# Altium integrated library Linear Technology Power Management Hot Swap Controllers.IntLib: 992 symbols (part 57 of 93)
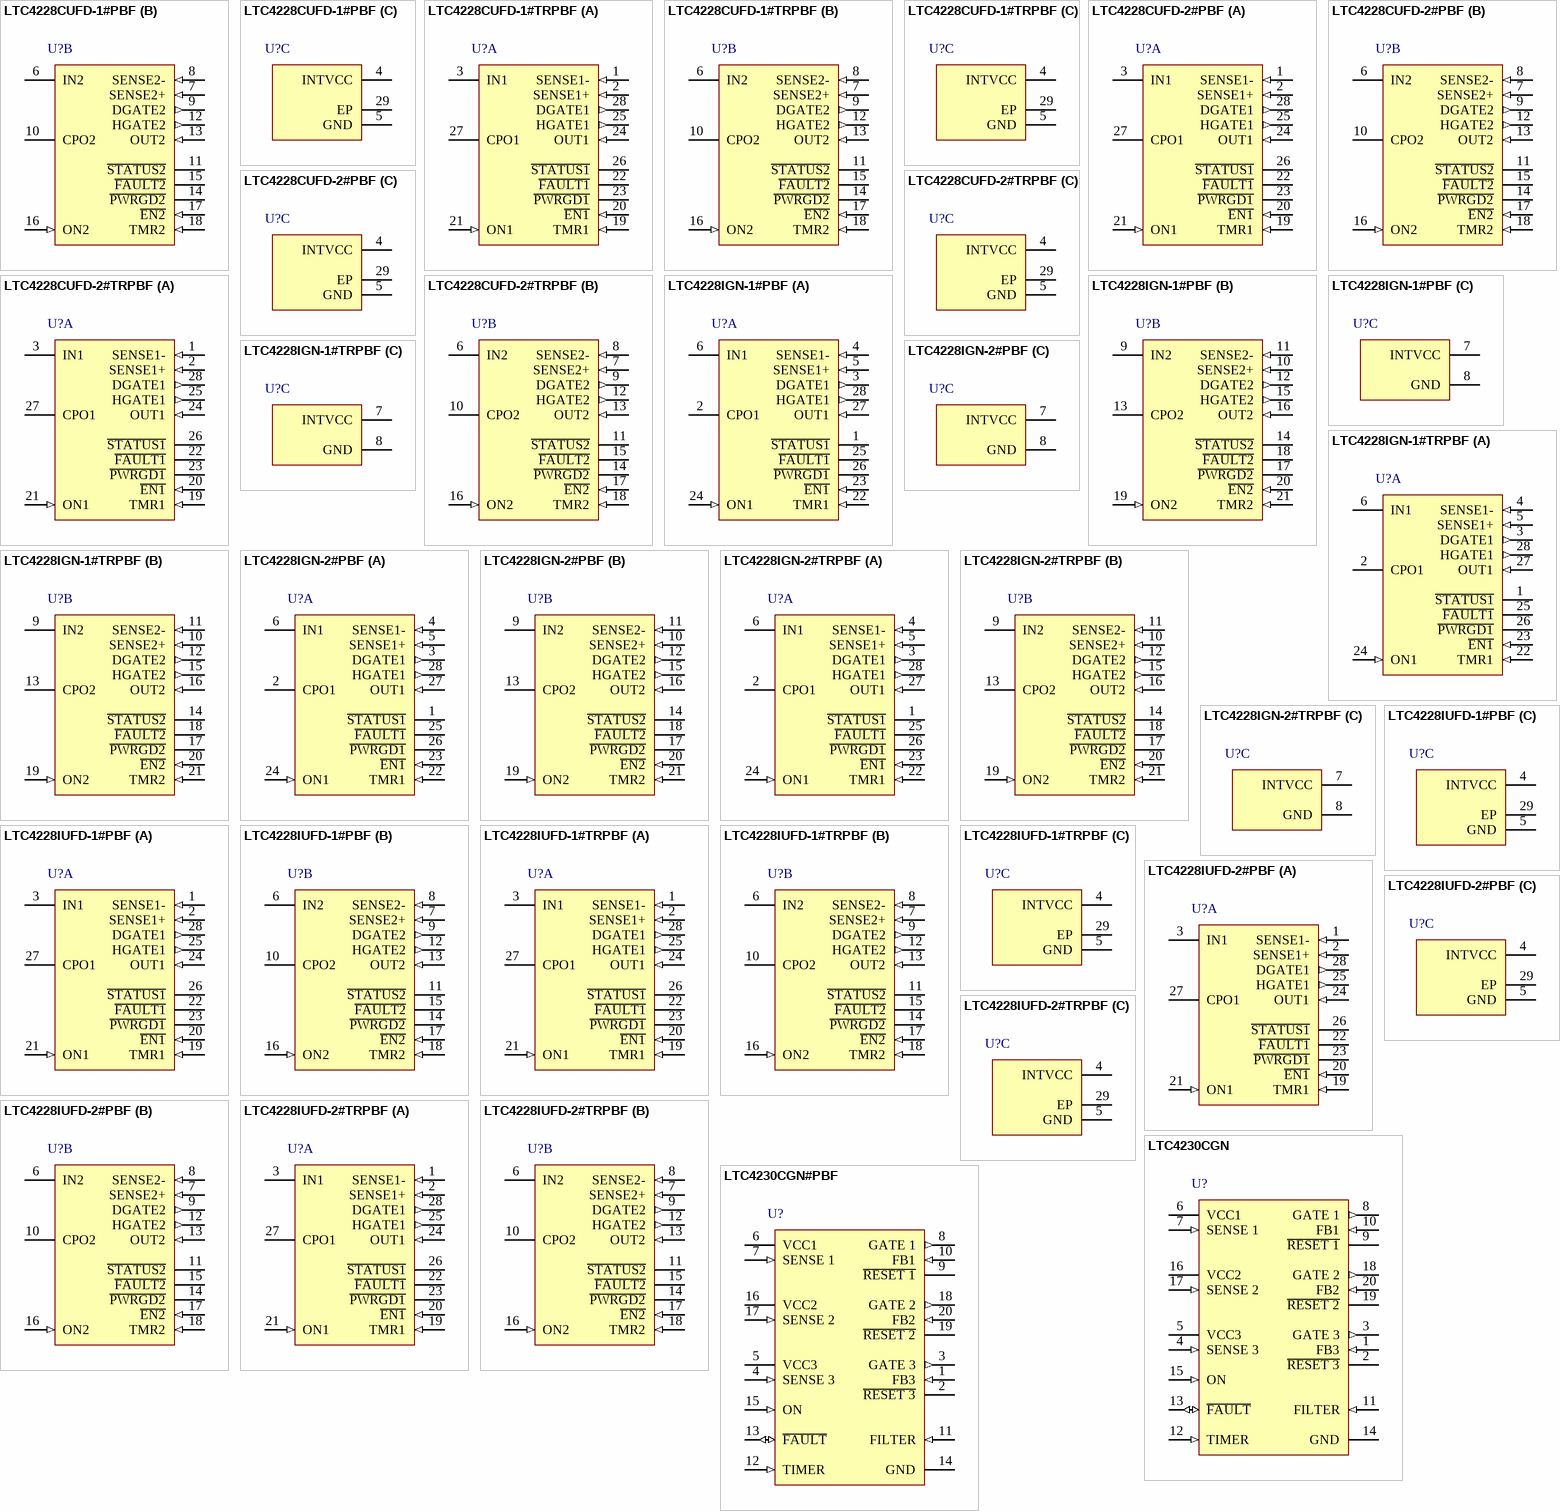
[diagram p93: symbols LTC4228CUFD-1#PBF to LTC4230CGN#PBF]

## LTC4228IUFD-2#PBF
designator U?
Dual Ideal Diode and Hot Swap Controller, 2.9 to 18 V Vin, 28-pin QFN (UFD-28), -40 to 85 degC, Pb-Free; Manufacturer: Linear Technology; PartNumber: LTC4228IUFD-2#PBF; Active Limiting: yes; Circuit Breaker Threshold: 50 mV; Extended Temp: C, I; Foldback: no; PackageVersion: Rev. B, 06/2010; PackageReference: UFD-28; PackageDescription: 28-Pin Plastic QFN, Body 5 x 4 mm, Pitch 0.5 mm; Supplier 1: Digi-Key; Supplier Part Number 1: LTC4228IUFD-2#PBF-ND; Supplier 2: Farnell; Supplier Part Number 2: 2215141; Supplier 3: Newark; Supplier Part Number 3: 44W6833; Fast Comparator: yes; Fault: yes; Power Good: yes; Reset: no; RoHS: TRUE; Vin Range: 2.9 to 18 V; Mounting Technology: Surface Mount; Code_JEDEC: MO-220; ComponentLink1Description: Manufacturer URL; ComponentLink1URL: http://www.linear.com/; ComponentLink2Description: Datasheet; ComponentLink2URL: http://cds.linear.com/docs/en/datasheet/422812f.pdf; ComponentLink3Description: Package Specification; ComponentLink3URL: http://cds.linear.com/docs/en/packaging/QFN_28_05-08-1712.pdf
footprint LT-UFD-28_N (QFN, 28-Leads, Body 5.1x4.1mm, Pitch 0.5mm, Thermal Pad 3.65x2.65mm, IPC Medium Density)
footprint LT-UFD-28_L (QFN, 28-Leads, Body 5.1x4.1mm, Pitch 0.5mm, Thermal Pad 3.65x2.65mm, IPC High Density)
footprint LT-UFD-28_M (QFN, 28-Leads, Body 5.1x4.1mm, Pitch 0.5mm, Thermal Pad 3.65x2.65mm, IPC Low Density)
part A pins: 1 SENSE1- (in) "Negative Current Sense Input. Connect this pin to the output of the current sense resistor. The current limit circuit controls HGATE to limit the voltage between SENSE+ and SENSE- to 65mV. A circuit breaker trips when the (See Datasheet)", 2 SENSE1+ (in) "Positive Current Sense Input. Connect this pin to the output of the external ideal diode MOSFET and input of the current sense resistor. The voltage sensed at this pin is used for monitoring the current limit. This pin has (See Datasheet)", 3 IN1 (power) "Positive Supply Input and Ideal Diode’s MOSFET Gate Drive Return. The 5V INTVCC supply is generated from IN1, IN2, OUT1 and OUT2 via an internal diode-OR. The voltage sensed at this pin is used to control DGATE for forwar(See Datasheet)", 19 TMR1 (in) "Timer Capacitor Terminal. Connect a capacitor between this pin and ground to set a 12ms/uF duration for current limit before the external Hot Swap MOSFET is turned off. The duration of the off time is 617ms/uF, resulting in (See Datasheet)", 20 ~{EN1} (in) "Enable Input. Ground this pin to enable Hot Swap control. If this pin is pulled high, the MOSFET is not allowed to turn on. A 10uA current source pulls this pin up to a diode below INTVCC. Upon E\N\ going low when ON is (See Datasheet)", 21 ON1 (in) "On Control Input. A rising edge above 1.235V turns on the external Hot Swap MOSFET and a falling edge below 1.155V turns it off. Connect this pin to an external resistive divider from IN or SENSE+ to monitor the supply (See Datasheet)", 22 ~{FAULT1} (oc) "Fault Status Output. Open-drain output that is normally pulled high by a 10uA current source to a diode below INTVCC. It may be pulled above INTVCC using an external pull-up. It pulls low when the circuit breaker is tripped (See Datasheet)", 23 ~{PWRGD1} (oc) "Power Status Output. Open-drain output that is normally pulled high by a 10uA current source to a diode below INTVCC. It may be pulled above INTVCC using an external pull-up. It pulls low when the MOSFET gate drive between (See Datasheet)", 24 OUT1 (in) "Output Voltage Sense and Hot Swap’s MOSFET Gate Drive Return. Connect this pin to the output side of the external MOSFET. The voltage sensed at this pin is used to control DGATE. The gate fast pull-down current return(See Datasheet)", 25 HGATE1 (out) "Hot Swap MOSFET Gate Drive Output. Connect this pin to the gate of the external N-channel MOSFET for Hot Swap control. An internal 10uA current source charges the MOSFET gate. An internal clamp limits the gate voltage to 12V (See Datasheet)", 26 ~{STATUS1} (oc) "Diode MOSFET Status Output. Open-drain output that is normally pulled high by a 10uA current source to a diode below INTVCC. It may be pulled above INTVCC using an external pull-up. It pulls low when the MOSFET gate drive (See Datasheet)", 27 CPO1 "Charge Pump Output. Connect a capacitor from CPO1 or CPO2 to the corresponding IN1 or IN2 pin. The value of this capacitor is approximately 10x the gate capacitance (CISS) of the external MOSFET for ideal diode control. The (See Datasheet)", 28 DGATE1 (out) "Ideal Diode MOSFET Gate Drive Output. Connect this pin to the gate of an external N-channel MOSFET for ideal diode control. An internal clamp limits the gate voltage to 12V above and a diode voltage below IN. During fast (See Datasheet)"
part B pins: 6 IN2 (power) "Positive Supply Input and Ideal Diode’s MOSFET Gate Drive Return. The 5V INTVCC supply is generated from IN1, IN2, OUT1 and OUT2 via an internal diode-OR. The voltage sensed at this pin is used to control DGATE for forwar(See Datasheet)", 7 SENSE2+ (in) "Positive Current Sense Input. Connect this pin to the output of the external ideal diode MOSFET and input of the current sense resistor. The voltage sensed at this pin is used for monitoring the current limit. This pin has (See Datasheet)", 8 SENSE2- (in) "Negative Current Sense Input. Connect this pin to the output of the current sense resistor. The current limit circuit controls HGATE to limit the voltage between SENSE+ and SENSE- to 65mV. A circuit breaker trips when the (See Datasheet)", 9 DGATE2 (out) "Ideal Diode MOSFET Gate Drive Output. Connect this pin to the gate of an external N-channel MOSFET for ideal diode control. An internal clamp limits the gate voltage to 12V above and a diode voltage below IN. During fast (See Datasheet)", 10 CPO2 "Charge Pump Output. Connect a capacitor from CPO1 or CPO2 to the corresponding IN1 or IN2 pin. The value of this capacitor is approximately 10x the gate capacitance (CISS) of the external MOSFET for ideal diode control. The (See Datasheet)", 11 ~{STATUS2} (oc) "Diode MOSFET Status Output. Open-drain output that is normally pulled high by a 10uA current source to a diode below INTVCC. It may be pulled above INTVCC using an external pull-up. It pulls low when the MOSFET gate drive (See Datasheet)", 12 HGATE2 (out) "Hot Swap MOSFET Gate Drive Output. Connect this pin to the gate of the external N-channel MOSFET for Hot Swap control. An internal 10uA current source charges the MOSFET gate. An internal clamp limits the gate voltage to 12V (See Datasheet)", 13 OUT2 (in) "Output Voltage Sense and Hot Swap’s MOSFET Gate Drive Return. Connect this pin to the output side of the external MOSFET. The voltage sensed at this pin is used to control DGATE. The gate fast pull-down current return(See Datasheet)", 14 ~{PWRGD2} (oc) "Power Status Output. Open-drain output that is normally pulled high by a 10uA current source to a diode below INTVCC. It may be pulled above INTVCC using an external pull-up. It pulls low when the MOSFET gate drive between (See Datasheet)", 15 ~{FAULT2} (oc) "Fault Status Output. Open-drain output that is normally pulled high by a 10uA current source to a diode below INTVCC. It may be pulled above INTVCC using an external pull-up. It pulls low when the circuit breaker is tripped (See Datasheet)", 16 ON2 (in) "On Control Input. A rising edge above 1.235V turns on the external Hot Swap MOSFET and a falling edge below 1.155V turns it off. Connect this pin to an external resistive divider from IN or SENSE+ to monitor the supply (See Datasheet)", 17 ~{EN2} (in) "Enable Input. Ground this pin to enable Hot Swap control. If this pin is pulled high, the MOSFET is not allowed to turn on. A 10uA current source pulls this pin up to a diode below INTVCC. Upon E\N\ going low when ON is (See Datasheet)", 18 TMR2 (in) "Timer Capacitor Terminal. Connect a capacitor between this pin and ground to set a 12ms/uF duration for current limit before the external Hot Swap MOSFET is turned off. The duration of the off time is 617ms/uF, resulting in (See Datasheet)"
part C pins: 4 INTVCC (power) "Internal 5V Supply Decoupling Output. This pin must have a 0.1uF or larger capacitor. An external load of less than 500uA can be connected at this pin.", 5 GND (power) "Device Ground", 29 EP (power) "The exposed pad may be left open or connected to device ground"

## LTC4228IUFD-2#TRPBF
designator U?
Dual Ideal Diode and Hot Swap Controller, 2.9 to 18 V Vin, 28-pin QFN (UFD-28), -40 to 85 degC, Pb-Free, Tape and Reel; Manufacturer: Linear Technology; PartNumber: LTC4228IUFD-2#TRPBF; Active Limiting: yes; Circuit Breaker Threshold: 50 mV; Extended Temp: C, I; Foldback: no; PackageVersion: Rev. B, 06/2010; PackageReference: UFD-28; PackageDescription: 28-Pin Plastic QFN, Body 5 x 4 mm, Pitch 0.5 mm; Supplier 1: Digi-Key; Supplier Part Number 1: LTC4228IUFD-2#TRPBF-ND; Supplier 2: Newark; Supplier Part Number 2: 44W6834; Fast Comparator: yes; Fault: yes; Packing: Tape and Reel; Power Good: yes; Reset: no; RoHS: TRUE; Vin Range: 2.9 to 18 V; Mounting Technology: Surface Mount; Code_JEDEC: MO-220; ComponentLink1Description: Manufacturer URL; ComponentLink1URL: http://www.linear.com/; ComponentLink2Description: Datasheet; ComponentLink2URL: http://cds.linear.com/docs/en/datasheet/422812f.pdf; ComponentLink3Description: Package Specification; ComponentLink3URL: http://cds.linear.com/docs/en/packaging/QFN_28_05-08-1712.pdf
footprint LT-UFD-28_N (QFN, 28-Leads, Body 5.1x4.1mm, Pitch 0.5mm, Thermal Pad 3.65x2.65mm, IPC Medium Density)
footprint LT-UFD-28_L (QFN, 28-Leads, Body 5.1x4.1mm, Pitch 0.5mm, Thermal Pad 3.65x2.65mm, IPC High Density)
footprint LT-UFD-28_M (QFN, 28-Leads, Body 5.1x4.1mm, Pitch 0.5mm, Thermal Pad 3.65x2.65mm, IPC Low Density)
part A pins: 1 SENSE1- (in) "Negative Current Sense Input. Connect this pin to the output of the current sense resistor. The current limit circuit controls HGATE to limit the voltage between SENSE+ and SENSE- to 65mV. A circuit breaker trips when the (See Datasheet)", 2 SENSE1+ (in) "Positive Current Sense Input. Connect this pin to the output of the external ideal diode MOSFET and input of the current sense resistor. The voltage sensed at this pin is used for monitoring the current limit. This pin has (See Datasheet)", 3 IN1 (power) "Positive Supply Input and Ideal Diode’s MOSFET Gate Drive Return. The 5V INTVCC supply is generated from IN1, IN2, OUT1 and OUT2 via an internal diode-OR. The voltage sensed at this pin is used to control DGATE for forwar(See Datasheet)", 19 TMR1 (in) "Timer Capacitor Terminal. Connect a capacitor between this pin and ground to set a 12ms/uF duration for current limit before the external Hot Swap MOSFET is turned off. The duration of the off time is 617ms/uF, resulting in (See Datasheet)", 20 ~{EN1} (in) "Enable Input. Ground this pin to enable Hot Swap control. If this pin is pulled high, the MOSFET is not allowed to turn on. A 10uA current source pulls this pin up to a diode below INTVCC. Upon E\N\ going low when ON is (See Datasheet)", 21 ON1 (in) "On Control Input. A rising edge above 1.235V turns on the external Hot Swap MOSFET and a falling edge below 1.155V turns it off. Connect this pin to an external resistive divider from IN or SENSE+ to monitor the supply (See Datasheet)", 22 ~{FAULT1} (oc) "Fault Status Output. Open-drain output that is normally pulled high by a 10uA current source to a diode below INTVCC. It may be pulled above INTVCC using an external pull-up. It pulls low when the circuit breaker is tripped (See Datasheet)", 23 ~{PWRGD1} (oc) "Power Status Output. Open-drain output that is normally pulled high by a 10uA current source to a diode below INTVCC. It may be pulled above INTVCC using an external pull-up. It pulls low when the MOSFET gate drive between (See Datasheet)", 24 OUT1 (in) "Output Voltage Sense and Hot Swap’s MOSFET Gate Drive Return. Connect this pin to the output side of the external MOSFET. The voltage sensed at this pin is used to control DGATE. The gate fast pull-down current return(See Datasheet)", 25 HGATE1 (out) "Hot Swap MOSFET Gate Drive Output. Connect this pin to the gate of the external N-channel MOSFET for Hot Swap control. An internal 10uA current source charges the MOSFET gate. An internal clamp limits the gate voltage to 12V (See Datasheet)", 26 ~{STATUS1} (oc) "Diode MOSFET Status Output. Open-drain output that is normally pulled high by a 10uA current source to a diode below INTVCC. It may be pulled above INTVCC using an external pull-up. It pulls low when the MOSFET gate drive (See Datasheet)", 27 CPO1 "Charge Pump Output. Connect a capacitor from CPO1 or CPO2 to the corresponding IN1 or IN2 pin. The value of this capacitor is approximately 10x the gate capacitance (CISS) of the external MOSFET for ideal diode control. The (See Datasheet)", 28 DGATE1 (out) "Ideal Diode MOSFET Gate Drive Output. Connect this pin to the gate of an external N-channel MOSFET for ideal diode control. An internal clamp limits the gate voltage to 12V above and a diode voltage below IN. During fast (See Datasheet)"
part B pins: 6 IN2 (power) "Positive Supply Input and Ideal Diode’s MOSFET Gate Drive Return. The 5V INTVCC supply is generated from IN1, IN2, OUT1 and OUT2 via an internal diode-OR. The voltage sensed at this pin is used to control DGATE for forwar(See Datasheet)", 7 SENSE2+ (in) "Positive Current Sense Input. Connect this pin to the output of the external ideal diode MOSFET and input of the current sense resistor. The voltage sensed at this pin is used for monitoring the current limit. This pin has (See Datasheet)", 8 SENSE2- (in) "Negative Current Sense Input. Connect this pin to the output of the current sense resistor. The current limit circuit controls HGATE to limit the voltage between SENSE+ and SENSE- to 65mV. A circuit breaker trips when the (See Datasheet)", 9 DGATE2 (out) "Ideal Diode MOSFET Gate Drive Output. Connect this pin to the gate of an external N-channel MOSFET for ideal diode control. An internal clamp limits the gate voltage to 12V above and a diode voltage below IN. During fast (See Datasheet)", 10 CPO2 "Charge Pump Output. Connect a capacitor from CPO1 or CPO2 to the corresponding IN1 or IN2 pin. The value of this capacitor is approximately 10x the gate capacitance (CISS) of the external MOSFET for ideal diode control. The (See Datasheet)", 11 ~{STATUS2} (oc) "Diode MOSFET Status Output. Open-drain output that is normally pulled high by a 10uA current source to a diode below INTVCC. It may be pulled above INTVCC using an external pull-up. It pulls low when the MOSFET gate drive (See Datasheet)", 12 HGATE2 (out) "Hot Swap MOSFET Gate Drive Output. Connect this pin to the gate of the external N-channel MOSFET for Hot Swap control. An internal 10uA current source charges the MOSFET gate. An internal clamp limits the gate voltage to 12V (See Datasheet)", 13 OUT2 (in) "Output Voltage Sense and Hot Swap’s MOSFET Gate Drive Return. Connect this pin to the output side of the external MOSFET. The voltage sensed at this pin is used to control DGATE. The gate fast pull-down current return(See Datasheet)", 14 ~{PWRGD2} (oc) "Power Status Output. Open-drain output that is normally pulled high by a 10uA current source to a diode below INTVCC. It may be pulled above INTVCC using an external pull-up. It pulls low when the MOSFET gate drive between (See Datasheet)", 15 ~{FAULT2} (oc) "Fault Status Output. Open-drain output that is normally pulled high by a 10uA current source to a diode below INTVCC. It may be pulled above INTVCC using an external pull-up. It pulls low when the circuit breaker is tripped (See Datasheet)", 16 ON2 (in) "On Control Input. A rising edge above 1.235V turns on the external Hot Swap MOSFET and a falling edge below 1.155V turns it off. Connect this pin to an external resistive divider from IN or SENSE+ to monitor the supply (See Datasheet)", 17 ~{EN2} (in) "Enable Input. Ground this pin to enable Hot Swap control. If this pin is pulled high, the MOSFET is not allowed to turn on. A 10uA current source pulls this pin up to a diode below INTVCC. Upon E\N\ going low when ON is (See Datasheet)", 18 TMR2 (in) "Timer Capacitor Terminal. Connect a capacitor between this pin and ground to set a 12ms/uF duration for current limit before the external Hot Swap MOSFET is turned off. The duration of the off time is 617ms/uF, resulting in (See Datasheet)"
part C pins: 4 INTVCC (power) "Internal 5V Supply Decoupling Output. This pin must have a 0.1uF or larger capacitor. An external load of less than 500uA can be connected at this pin.", 5 GND (power) "Device Ground", 29 EP (power) "The exposed pad may be left open or connected to device ground"

## LTC4230CGN
designator U?
Triple Hot Swap Controller with Multifunction Current Control, (1) 2.7 to 16.5 V, (2) 2.375 to 16.5 V, (3) 1.7 to 15.5 V Vin, 20-pin SOP (GN-20), 0 to 70 degC; Manufacturer: Linear Technology; PartNumber: LTC4230CGN; Active Limiting: no; Circuit Breaker Accuracy(%): 20; Circuit Breaker Threshold: 50 mV; Circuit Breakers(#): 3; Extended Temp: C, I; Fast Comparator: yes; In-Rush Current: Active; PackageVersion: Rev. B, 03/2012; PackageReference: GN-20; PackageDescription: 20-Pin Plastic SSOP, Body 8.649 x 3.899 mm, Pitch 0.635 mm; Supplier 1: Digi-Key; Supplier Part Number 1: LTC4230CGN-ND; Fault: yes; Foldback: no; Power Good: no; Reset: yes; RoHS: FALSE; Vin Range: (1) 2.7 to 16.5 V, (2) 2.375 to 16.5 V, (3) 1.7 to 15.5 V; Mounting Technology: Surface Mount; ComponentLink1Description: Manufacturer URL; ComponentLink1URL: http://www.linear.com/; ComponentLink2Description: Datasheet; ComponentLink2URL: http://cds.linear.com/docs/en/datasheet/4230f.pdf; ComponentLink3Description: Package Specification; ComponentLink3URL: http://cds.linear.com/docs/en/packaging/05081641_B_GN20.pdf
footprint LT-GN-20_N (SOP, 20-Leads, Body 8.7x4mm, Pitch 0.635mm, IPC Medium Density)
footprint LT-GN-20_L (SOP, 20-Leads, Body 8.7x4mm, Pitch 0.635mm, IPC High Density)
footprint LT-GN-20_M (SOP, 20-Leads, Body 8.7x4mm, Pitch 0.635mm, IPC Low Density)
pins: 1 FB3 (in) "The FB3 (Feedback) pin is an input to the FBCOMP3 comparator which monitors the VCC3 output supply voltage through an external resistor divider.", 2 ~{RESET 3} (oc) "An open-drain N-channel device whose source connects to GND (Pin 14). This pin pulls low if the voltage at FB3 (Pin 1) falls below the FB3 threshold (1.234V).", 3 GATE 3 (out) "The output signal at this pin is the high side gate drive for Channel 3’s external N-channel MOSFET pass transistor.", 4 SENSE 3 (in) "Circuit Breaker Sense Pin for Channel 3. With a sense resistor placed in the power path between VCC3 and SENSE 3,", 5 VCC3 (power) "Positive Supply Input for Channel 3. VCC3 operates from 1.7V to 15.5V (VCC3 £ VCC1 - 1V) and its supply current, ICC3, is typically 65mA. The master UVLO circuit disables all three GATEn outputs of the LTC4230 until the(See Datasheet)", 6 VCC1 (power) "This is the positive supply input to the LTC4230, the power supply input for Channel 1, and the power supply input for all three internal charge pumps.", 7 SENSE 1 (in) "Circuit Breaker Sense Pin for Channel 1. With a sense resistor placed in the power path between VCC1 and SENSE 1, Channel 1’s electronic circuit breaker trips if the voltage across the sense resistor (VCC1 - VSENSE1(See Datasheet)", 8 GATE 1 (out) "The output signal at this pin is the high side gate drive for Channel 1’s external N-channel FET pass transistor.", 9 ~{RESET 1} (hiz) "An open-drain N-channel device whose source connects to GND (Pin 14).", 10 FB1 (in) "The FB1 (Feedback) pin is an input to the FBCOMP1 comparator which monitors the VCC1 output supply voltage through an external resistor divider.", 11 FILTER (in) "Overcurrent Fault Timing Pin and Overvoltage Fault Set Pin. With a capacitor connected from this pin to ground,", 12 TIMER (in) "A capacitor connected from this pin to GND sets the LTC4230’s system timing. The LTC4230’s initial and second start-up timing cycles and its discharge mode delay time are controlled by this capacitor.", 13 ~{FAULT} (io) "F\A\U\L\T\ is a dual function (an input and an output) internal to the LTC4230. Connected to this pin are an analog comparator (COMP6) and an open-drain N-channel FET.", 14 GND (power) "Device Ground Connection. Connect this pin to the system’s analog ground plane.", 15 ON (in) "An active high signal used to enable or disable LTC4230 operation. As shown in the LTC4230 Block  Diagram, COMP1’s threshold is set at 1.234V and its hysteresis is set at 80mV.", 16 VCC2 (power) "Positive Supply Input for Channel 2. VCC2 operates from 2.375V to 16.5V and its supply current, ICC2, is typically 75mA.", 17 SENSE 2 (in) "Circuit Breaker Sense Pin for Channel 2. With a sense resistor placed in the power path between VCC2 and SENSE 2,", 18 GATE 2 (out) "The output signal at this pin is the high side gate drive for Channel 2’s external N-channel FET pass transistor.", 19 ~{RESET 2} (oc) "An open-drain N-channel device whose source connects to GND (Pin 14). This pin pulls low if the voltage at FB2 (Pin 20) falls below the FB2 threshold (1.234V).", 20 FB2 (in) "The FB2 (Feedback) pin is an input to the FBCOMP2 comparator which monitors the VCC2 output supply voltage through an external resistor divider."

## LTC4230CGN#PBF
designator U?
Triple Hot Swap Controller with Multifunction Current Control, (1) 2.7 to 16.5 V, (2) 2.375 to 16.5 V, (3) 1.7 to 15.5 V Vin, 20-pin SOP (GN-20), 0 to 70 degC, Pb-Free; Manufacturer: Linear Technology; PartNumber: LTC4230CGN#PBF; Active Limiting: no; Circuit Breaker Accuracy(%): 20; Circuit Breaker Threshold: 50 mV; Circuit Breakers(#): 3; Extended Temp: C, I; Fast Comparator: yes; In-Rush Current: Active; PackageVersion: Rev. B, 03/2012; PackageReference: GN-20; PackageDescription: 20-Pin Plastic SSOP, Body 8.649 x 3.899 mm, Pitch 0.635 mm; Supplier 1: Digi-Key; Supplier Part Number 1: LTC4230CGN#PBF-ND; Fault: yes; Foldback: no; Power Good: no; Reset: yes; RoHS: TRUE; Vin Range: (1) 2.7 to 16.5 V, (2) 2.375 to 16.5 V, (3) 1.7 to 15.5 V; Mounting Technology: Surface Mount; ComponentLink1Description: Manufacturer URL; ComponentLink1URL: http://www.linear.com/; ComponentLink2Description: Datasheet; ComponentLink2URL: http://cds.linear.com/docs/en/datasheet/4230f.pdf; ComponentLink3Description: Package Specification; ComponentLink3URL: http://cds.linear.com/docs/en/packaging/05081641_B_GN20.pdf
footprint LT-GN-20_N (SOP, 20-Leads, Body 8.7x4mm, Pitch 0.635mm, IPC Medium Density)
footprint LT-GN-20_L (SOP, 20-Leads, Body 8.7x4mm, Pitch 0.635mm, IPC High Density)
footprint LT-GN-20_M (SOP, 20-Leads, Body 8.7x4mm, Pitch 0.635mm, IPC Low Density)
pins: 1 FB3 (in) "The FB3 (Feedback) pin is an input to the FBCOMP3 comparator which monitors the VCC3 output supply voltage through an external resistor divider.", 2 ~{RESET 3} (oc) "An open-drain N-channel device whose source connects to GND (Pin 14). This pin pulls low if the voltage at FB3 (Pin 1) falls below the FB3 threshold (1.234V).", 3 GATE 3 (out) "The output signal at this pin is the high side gate drive for Channel 3’s external N-channel MOSFET pass transistor.", 4 SENSE 3 (in) "Circuit Breaker Sense Pin for Channel 3. With a sense resistor placed in the power path between VCC3 and SENSE 3,", 5 VCC3 (power) "Positive Supply Input for Channel 3. VCC3 operates from 1.7V to 15.5V (VCC3 £ VCC1 - 1V) and its supply current, ICC3, is typically 65mA. The master UVLO circuit disables all three GATEn outputs of the LTC4230 until the(See Datasheet)", 6 VCC1 (power) "This is the positive supply input to the LTC4230, the power supply input for Channel 1, and the power supply input for all three internal charge pumps.", 7 SENSE 1 (in) "Circuit Breaker Sense Pin for Channel 1. With a sense resistor placed in the power path between VCC1 and SENSE 1, Channel 1’s electronic circuit breaker trips if the voltage across the sense resistor (VCC1 - VSENSE1(See Datasheet)", 8 GATE 1 (out) "The output signal at this pin is the high side gate drive for Channel 1’s external N-channel FET pass transistor.", 9 ~{RESET 1} (hiz) "An open-drain N-channel device whose source connects to GND (Pin 14).", 10 FB1 (in) "The FB1 (Feedback) pin is an input to the FBCOMP1 comparator which monitors the VCC1 output supply voltage through an external resistor divider.", 11 FILTER (in) "Overcurrent Fault Timing Pin and Overvoltage Fault Set Pin. With a capacitor connected from this pin to ground,", 12 TIMER (in) "A capacitor connected from this pin to GND sets the LTC4230’s system timing. The LTC4230’s initial and second start-up timing cycles and its discharge mode delay time are controlled by this capacitor.", 13 ~{FAULT} (io) "F\A\U\L\T\ is a dual function (an input and an output) internal to the LTC4230. Connected to this pin are an analog comparator (COMP6) and an open-drain N-channel FET.", 14 GND (power) "Device Ground Connection. Connect this pin to the system’s analog ground plane.", 15 ON (in) "An active high signal used to enable or disable LTC4230 operation. As shown in the LTC4230 Block  Diagram, COMP1’s threshold is set at 1.234V and its hysteresis is set at 80mV.", 16 VCC2 (power) "Positive Supply Input for Channel 2. VCC2 operates from 2.375V to 16.5V and its supply current, ICC2, is typically 75mA.", 17 SENSE 2 (in) "Circuit Breaker Sense Pin for Channel 2. With a sense resistor placed in the power path between VCC2 and SENSE 2,", 18 GATE 2 (out) "The output signal at this pin is the high side gate drive for Channel 2’s external N-channel FET pass transistor.", 19 ~{RESET 2} (oc) "An open-drain N-channel device whose source connects to GND (Pin 14). This pin pulls low if the voltage at FB2 (Pin 20) falls below the FB2 threshold (1.234V).", 20 FB2 (in) "The FB2 (Feedback) pin is an input to the FBCOMP2 comparator which monitors the VCC2 output supply voltage through an external resistor divider."

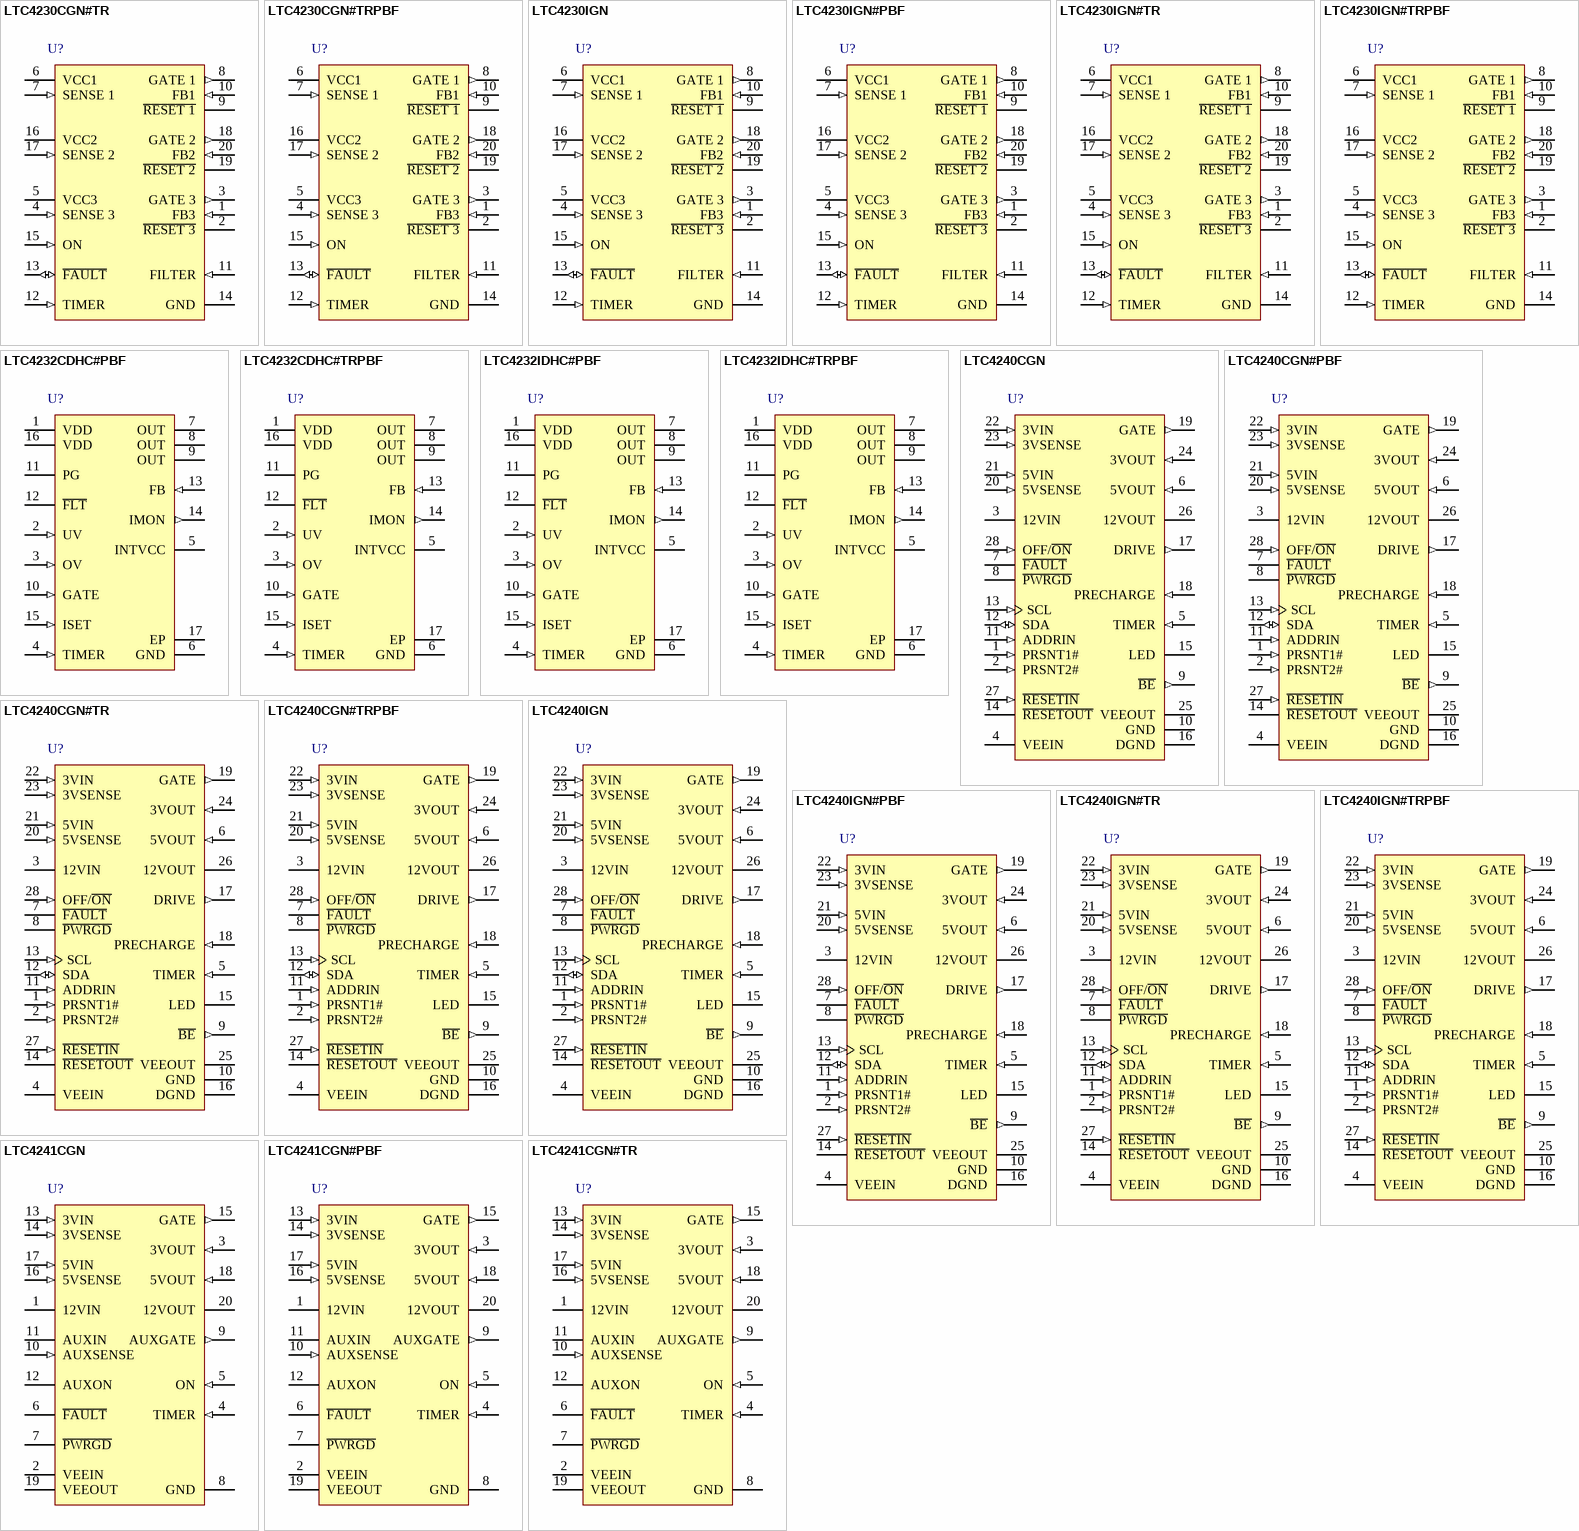
[diagram p23: symbols LTC4230CGN#TR to LTC4241CGN#TR]

## LTC4230CGN#TR
designator U?
Triple Hot Swap Controller with Multifunction Current Control, (1) 2.7 to 16.5 V, (2) 2.375 to 16.5 V, (3) 1.7 to 15.5 V Vin, 20-pin SOP (GN-20), 0 to 70 degC, Tape and Reel; Manufacturer: Linear Technology; PartNumber: LTC4230CGN#TR; Active Limiting: no; Circuit Breaker Accuracy(%): 20; Circuit Breaker Threshold: 50 mV; Circuit Breakers(#): 3; Extended Temp: C, I; Fast Comparator: yes; In-Rush Current: Active; PackageVersion: Rev. B, 03/2012; PackageReference: GN-20; PackageDescription: 20-Pin Plastic SSOP, Body 8.649 x 3.899 mm, Pitch 0.635 mm; Supplier 1: Digi-Key; Supplier Part Number 1: LTC4230CGNTR-ND; Fault: yes; Foldback: no; Packing: Tape and Reel; Power Good: no; Reset: yes; RoHS: FALSE; Vin Range: (1) 2.7 to 16.5 V, (2) 2.375 to 16.5 V, (3) 1.7 to 15.5 V; Mounting Technology: Surface Mount; ComponentLink1Description: Manufacturer URL; ComponentLink1URL: http://www.linear.com/; ComponentLink2Description: Datasheet; ComponentLink2URL: http://cds.linear.com/docs/en/datasheet/4230f.pdf; ComponentLink3Description: Package Specification; ComponentLink3URL: http://cds.linear.com/docs/en/packaging/05081641_B_GN20.pdf
footprint LT-GN-20_N (SOP, 20-Leads, Body 8.7x4mm, Pitch 0.635mm, IPC Medium Density)
footprint LT-GN-20_L (SOP, 20-Leads, Body 8.7x4mm, Pitch 0.635mm, IPC High Density)
footprint LT-GN-20_M (SOP, 20-Leads, Body 8.7x4mm, Pitch 0.635mm, IPC Low Density)
pins: 1 FB3 (in) "The FB3 (Feedback) pin is an input to the FBCOMP3 comparator which monitors the VCC3 output supply voltage through an external resistor divider.", 2 ~{RESET 3} (oc) "An open-drain N-channel device whose source connects to GND (Pin 14). This pin pulls low if the voltage at FB3 (Pin 1) falls below the FB3 threshold (1.234V).", 3 GATE 3 (out) "The output signal at this pin is the high side gate drive for Channel 3’s external N-channel MOSFET pass transistor.", 4 SENSE 3 (in) "Circuit Breaker Sense Pin for Channel 3. With a sense resistor placed in the power path between VCC3 and SENSE 3,", 5 VCC3 (power) "Positive Supply Input for Channel 3. VCC3 operates from 1.7V to 15.5V (VCC3 £ VCC1 - 1V) and its supply current, ICC3, is typically 65mA. The master UVLO circuit disables all three GATEn outputs of the LTC4230 until the(See Datasheet)", 6 VCC1 (power) "This is the positive supply input to the LTC4230, the power supply input for Channel 1, and the power supply input for all three internal charge pumps.", 7 SENSE 1 (in) "Circuit Breaker Sense Pin for Channel 1. With a sense resistor placed in the power path between VCC1 and SENSE 1, Channel 1’s electronic circuit breaker trips if the voltage across the sense resistor (VCC1 - VSENSE1(See Datasheet)", 8 GATE 1 (out) "The output signal at this pin is the high side gate drive for Channel 1’s external N-channel FET pass transistor.", 9 ~{RESET 1} (hiz) "An open-drain N-channel device whose source connects to GND (Pin 14).", 10 FB1 (in) "The FB1 (Feedback) pin is an input to the FBCOMP1 comparator which monitors the VCC1 output supply voltage through an external resistor divider.", 11 FILTER (in) "Overcurrent Fault Timing Pin and Overvoltage Fault Set Pin. With a capacitor connected from this pin to ground,", 12 TIMER (in) "A capacitor connected from this pin to GND sets the LTC4230’s system timing. The LTC4230’s initial and second start-up timing cycles and its discharge mode delay time are controlled by this capacitor.", 13 ~{FAULT} (io) "F\A\U\L\T\ is a dual function (an input and an output) internal to the LTC4230. Connected to this pin are an analog comparator (COMP6) and an open-drain N-channel FET.", 14 GND (power) "Device Ground Connection. Connect this pin to the system’s analog ground plane.", 15 ON (in) "An active high signal used to enable or disable LTC4230 operation. As shown in the LTC4230 Block  Diagram, COMP1’s threshold is set at 1.234V and its hysteresis is set at 80mV.", 16 VCC2 (power) "Positive Supply Input for Channel 2. VCC2 operates from 2.375V to 16.5V and its supply current, ICC2, is typically 75mA.", 17 SENSE 2 (in) "Circuit Breaker Sense Pin for Channel 2. With a sense resistor placed in the power path between VCC2 and SENSE 2,", 18 GATE 2 (out) "The output signal at this pin is the high side gate drive for Channel 2’s external N-channel FET pass transistor.", 19 ~{RESET 2} (oc) "An open-drain N-channel device whose source connects to GND (Pin 14). This pin pulls low if the voltage at FB2 (Pin 20) falls below the FB2 threshold (1.234V).", 20 FB2 (in) "The FB2 (Feedback) pin is an input to the FBCOMP2 comparator which monitors the VCC2 output supply voltage through an external resistor divider."

## LTC4230CGN#TRPBF
designator U?
Triple Hot Swap Controller with Multifunction Current Control, (1) 2.7 to 16.5 V, (2) 2.375 to 16.5 V, (3) 1.7 to 15.5 V Vin, 20-pin SOP (GN-20), 0 to 70 degC, Pb-Free, Tape and Reel; Manufacturer: Linear Technology; PartNumber: LTC4230CGN#TRPBF; Active Limiting: no; Circuit Breaker Accuracy(%): 20; Circuit Breaker Threshold: 50 mV; Circuit Breakers(#): 3; Extended Temp: C, I; Fast Comparator: yes; In-Rush Current: Active; PackageVersion: Rev. B, 03/2012; PackageReference: GN-20; PackageDescription: 20-Pin Plastic SSOP, Body 8.649 x 3.899 mm, Pitch 0.635 mm; Supplier 1: Digi-Key; Supplier Part Number 1: LTC4230CGN#TRPBF-ND; Fault: yes; Foldback: no; Packing: Tape and Reel; Power Good: no; Reset: yes; RoHS: TRUE; Vin Range: (1) 2.7 to 16.5 V, (2) 2.375 to 16.5 V, (3) 1.7 to 15.5 V; Mounting Technology: Surface Mount; ComponentLink1Description: Manufacturer URL; ComponentLink1URL: http://www.linear.com/; ComponentLink2Description: Datasheet; ComponentLink2URL: http://cds.linear.com/docs/en/datasheet/4230f.pdf; ComponentLink3Description: Package Specification; ComponentLink3URL: http://cds.linear.com/docs/en/packaging/05081641_B_GN20.pdf
footprint LT-GN-20_N (SOP, 20-Leads, Body 8.7x4mm, Pitch 0.635mm, IPC Medium Density)
footprint LT-GN-20_L (SOP, 20-Leads, Body 8.7x4mm, Pitch 0.635mm, IPC High Density)
footprint LT-GN-20_M (SOP, 20-Leads, Body 8.7x4mm, Pitch 0.635mm, IPC Low Density)
pins: 1 FB3 (in) "The FB3 (Feedback) pin is an input to the FBCOMP3 comparator which monitors the VCC3 output supply voltage through an external resistor divider.", 2 ~{RESET 3} (oc) "An open-drain N-channel device whose source connects to GND (Pin 14). This pin pulls low if the voltage at FB3 (Pin 1) falls below the FB3 threshold (1.234V).", 3 GATE 3 (out) "The output signal at this pin is the high side gate drive for Channel 3’s external N-channel MOSFET pass transistor.", 4 SENSE 3 (in) "Circuit Breaker Sense Pin for Channel 3. With a sense resistor placed in the power path between VCC3 and SENSE 3,", 5 VCC3 (power) "Positive Supply Input for Channel 3. VCC3 operates from 1.7V to 15.5V (VCC3 £ VCC1 - 1V) and its supply current, ICC3, is typically 65mA. The master UVLO circuit disables all three GATEn outputs of the LTC4230 until the(See Datasheet)", 6 VCC1 (power) "This is the positive supply input to the LTC4230, the power supply input for Channel 1, and the power supply input for all three internal charge pumps.", 7 SENSE 1 (in) "Circuit Breaker Sense Pin for Channel 1. With a sense resistor placed in the power path between VCC1 and SENSE 1, Channel 1’s electronic circuit breaker trips if the voltage across the sense resistor (VCC1 - VSENSE1(See Datasheet)", 8 GATE 1 (out) "The output signal at this pin is the high side gate drive for Channel 1’s external N-channel FET pass transistor.", 9 ~{RESET 1} (hiz) "An open-drain N-channel device whose source connects to GND (Pin 14).", 10 FB1 (in) "The FB1 (Feedback) pin is an input to the FBCOMP1 comparator which monitors the VCC1 output supply voltage through an external resistor divider.", 11 FILTER (in) "Overcurrent Fault Timing Pin and Overvoltage Fault Set Pin. With a capacitor connected from this pin to ground,", 12 TIMER (in) "A capacitor connected from this pin to GND sets the LTC4230’s system timing. The LTC4230’s initial and second start-up timing cycles and its discharge mode delay time are controlled by this capacitor.", 13 ~{FAULT} (io) "F\A\U\L\T\ is a dual function (an input and an output) internal to the LTC4230. Connected to this pin are an analog comparator (COMP6) and an open-drain N-channel FET.", 14 GND (power) "Device Ground Connection. Connect this pin to the system’s analog ground plane.", 15 ON (in) "An active high signal used to enable or disable LTC4230 operation. As shown in the LTC4230 Block  Diagram, COMP1’s threshold is set at 1.234V and its hysteresis is set at 80mV.", 16 VCC2 (power) "Positive Supply Input for Channel 2. VCC2 operates from 2.375V to 16.5V and its supply current, ICC2, is typically 75mA.", 17 SENSE 2 (in) "Circuit Breaker Sense Pin for Channel 2. With a sense resistor placed in the power path between VCC2 and SENSE 2,", 18 GATE 2 (out) "The output signal at this pin is the high side gate drive for Channel 2’s external N-channel FET pass transistor.", 19 ~{RESET 2} (oc) "An open-drain N-channel device whose source connects to GND (Pin 14). This pin pulls low if the voltage at FB2 (Pin 20) falls below the FB2 threshold (1.234V).", 20 FB2 (in) "The FB2 (Feedback) pin is an input to the FBCOMP2 comparator which monitors the VCC2 output supply voltage through an external resistor divider."

## LTC4230IGN
designator U?
Triple Hot Swap Controller with Multifunction Current Control, (1) 2.7 to 16.5 V, (2) 2.375 to 16.5 V, (3) 1.7 to 15.5 V Vin, 20-pin SOP (GN-20), -40 to 85 degC; Manufacturer: Linear Technology; PartNumber: LTC4230IGN; Active Limiting: no; Circuit Breaker Accuracy(%): 20; Circuit Breaker Threshold: 50 mV; Circuit Breakers(#): 3; Extended Temp: C, I; Fast Comparator: yes; In-Rush Current: Active; PackageVersion: Rev. B, 03/2012; PackageReference: GN-20; PackageDescription: 20-Pin Plastic SSOP, Body 8.649 x 3.899 mm, Pitch 0.635 mm; Supplier 1: Digi-Key; Supplier Part Number 1: LTC4230IGN-ND; Fault: yes; Foldback: no; Power Good: no; Reset: yes; RoHS: FALSE; Vin Range: (1) 2.7 to 16.5 V, (2) 2.375 to 16.5 V, (3) 1.7 to 15.5 V; Mounting Technology: Surface Mount; ComponentLink1Description: Manufacturer URL; ComponentLink1URL: http://www.linear.com/; ComponentLink2Description: Datasheet; ComponentLink2URL: http://cds.linear.com/docs/en/datasheet/4230f.pdf; ComponentLink3Description: Package Specification; ComponentLink3URL: http://cds.linear.com/docs/en/packaging/05081641_B_GN20.pdf
footprint LT-GN-20_N (SOP, 20-Leads, Body 8.7x4mm, Pitch 0.635mm, IPC Medium Density)
footprint LT-GN-20_L (SOP, 20-Leads, Body 8.7x4mm, Pitch 0.635mm, IPC High Density)
footprint LT-GN-20_M (SOP, 20-Leads, Body 8.7x4mm, Pitch 0.635mm, IPC Low Density)
pins: 1 FB3 (in) "The FB3 (Feedback) pin is an input to the FBCOMP3 comparator which monitors the VCC3 output supply voltage through an external resistor divider.", 2 ~{RESET 3} (oc) "An open-drain N-channel device whose source connects to GND (Pin 14). This pin pulls low if the voltage at FB3 (Pin 1) falls below the FB3 threshold (1.234V).", 3 GATE 3 (out) "The output signal at this pin is the high side gate drive for Channel 3’s external N-channel MOSFET pass transistor.", 4 SENSE 3 (in) "Circuit Breaker Sense Pin for Channel 3. With a sense resistor placed in the power path between VCC3 and SENSE 3,", 5 VCC3 (power) "Positive Supply Input for Channel 3. VCC3 operates from 1.7V to 15.5V (VCC3 £ VCC1 - 1V) and its supply current, ICC3, is typically 65mA. The master UVLO circuit disables all three GATEn outputs of the LTC4230 until the(See Datasheet)", 6 VCC1 (power) "This is the positive supply input to the LTC4230, the power supply input for Channel 1, and the power supply input for all three internal charge pumps.", 7 SENSE 1 (in) "Circuit Breaker Sense Pin for Channel 1. With a sense resistor placed in the power path between VCC1 and SENSE 1, Channel 1’s electronic circuit breaker trips if the voltage across the sense resistor (VCC1 - VSENSE1(See Datasheet)", 8 GATE 1 (out) "The output signal at this pin is the high side gate drive for Channel 1’s external N-channel FET pass transistor.", 9 ~{RESET 1} (hiz) "An open-drain N-channel device whose source connects to GND (Pin 14).", 10 FB1 (in) "The FB1 (Feedback) pin is an input to the FBCOMP1 comparator which monitors the VCC1 output supply voltage through an external resistor divider.", 11 FILTER (in) "Overcurrent Fault Timing Pin and Overvoltage Fault Set Pin. With a capacitor connected from this pin to ground,", 12 TIMER (in) "A capacitor connected from this pin to GND sets the LTC4230’s system timing. The LTC4230’s initial and second start-up timing cycles and its discharge mode delay time are controlled by this capacitor.", 13 ~{FAULT} (io) "F\A\U\L\T\ is a dual function (an input and an output) internal to the LTC4230. Connected to this pin are an analog comparator (COMP6) and an open-drain N-channel FET.", 14 GND (power) "Device Ground Connection. Connect this pin to the system’s analog ground plane.", 15 ON (in) "An active high signal used to enable or disable LTC4230 operation. As shown in the LTC4230 Block  Diagram, COMP1’s threshold is set at 1.234V and its hysteresis is set at 80mV.", 16 VCC2 (power) "Positive Supply Input for Channel 2. VCC2 operates from 2.375V to 16.5V and its supply current, ICC2, is typically 75mA.", 17 SENSE 2 (in) "Circuit Breaker Sense Pin for Channel 2. With a sense resistor placed in the power path between VCC2 and SENSE 2,", 18 GATE 2 (out) "The output signal at this pin is the high side gate drive for Channel 2’s external N-channel FET pass transistor.", 19 ~{RESET 2} (oc) "An open-drain N-channel device whose source connects to GND (Pin 14). This pin pulls low if the voltage at FB2 (Pin 20) falls below the FB2 threshold (1.234V).", 20 FB2 (in) "The FB2 (Feedback) pin is an input to the FBCOMP2 comparator which monitors the VCC2 output supply voltage through an external resistor divider."

## LTC4230IGN#PBF
designator U?
Triple Hot Swap Controller with Multifunction Current Control, (1) 2.7 to 16.5 V, (2) 2.375 to 16.5 V, (3) 1.7 to 15.5 V Vin, 20-pin SOP (GN-20), -40 to 85 degC, Pb-Free; Manufacturer: Linear Technology; PartNumber: LTC4230IGN#PBF; Active Limiting: no; Circuit Breaker Accuracy(%): 20; Circuit Breaker Threshold: 50 mV; Circuit Breakers(#): 3; Extended Temp: C, I; Fast Comparator: yes; In-Rush Current: Active; PackageVersion: Rev. B, 03/2012; PackageReference: GN-20; PackageDescription: 20-Pin Plastic SSOP, Body 8.649 x 3.899 mm, Pitch 0.635 mm; Supplier 1: Digi-Key; Supplier Part Number 1: LTC4230IGN#PBF-ND; Fault: yes; Foldback: no; Power Good: no; Reset: yes; RoHS: TRUE; Vin Range: (1) 2.7 to 16.5 V, (2) 2.375 to 16.5 V, (3) 1.7 to 15.5 V; Mounting Technology: Surface Mount; ComponentLink1Description: Manufacturer URL; ComponentLink1URL: http://www.linear.com/; ComponentLink2Description: Datasheet; ComponentLink2URL: http://cds.linear.com/docs/en/datasheet/4230f.pdf; ComponentLink3Description: Package Specification; ComponentLink3URL: http://cds.linear.com/docs/en/packaging/05081641_B_GN20.pdf
footprint LT-GN-20_N (SOP, 20-Leads, Body 8.7x4mm, Pitch 0.635mm, IPC Medium Density)
footprint LT-GN-20_L (SOP, 20-Leads, Body 8.7x4mm, Pitch 0.635mm, IPC High Density)
footprint LT-GN-20_M (SOP, 20-Leads, Body 8.7x4mm, Pitch 0.635mm, IPC Low Density)
pins: 1 FB3 (in) "The FB3 (Feedback) pin is an input to the FBCOMP3 comparator which monitors the VCC3 output supply voltage through an external resistor divider.", 2 ~{RESET 3} (oc) "An open-drain N-channel device whose source connects to GND (Pin 14). This pin pulls low if the voltage at FB3 (Pin 1) falls below the FB3 threshold (1.234V).", 3 GATE 3 (out) "The output signal at this pin is the high side gate drive for Channel 3’s external N-channel MOSFET pass transistor.", 4 SENSE 3 (in) "Circuit Breaker Sense Pin for Channel 3. With a sense resistor placed in the power path between VCC3 and SENSE 3,", 5 VCC3 (power) "Positive Supply Input for Channel 3. VCC3 operates from 1.7V to 15.5V (VCC3 £ VCC1 - 1V) and its supply current, ICC3, is typically 65mA. The master UVLO circuit disables all three GATEn outputs of the LTC4230 until the(See Datasheet)", 6 VCC1 (power) "This is the positive supply input to the LTC4230, the power supply input for Channel 1, and the power supply input for all three internal charge pumps.", 7 SENSE 1 (in) "Circuit Breaker Sense Pin for Channel 1. With a sense resistor placed in the power path between VCC1 and SENSE 1, Channel 1’s electronic circuit breaker trips if the voltage across the sense resistor (VCC1 - VSENSE1(See Datasheet)", 8 GATE 1 (out) "The output signal at this pin is the high side gate drive for Channel 1’s external N-channel FET pass transistor.", 9 ~{RESET 1} (hiz) "An open-drain N-channel device whose source connects to GND (Pin 14).", 10 FB1 (in) "The FB1 (Feedback) pin is an input to the FBCOMP1 comparator which monitors the VCC1 output supply voltage through an external resistor divider.", 11 FILTER (in) "Overcurrent Fault Timing Pin and Overvoltage Fault Set Pin. With a capacitor connected from this pin to ground,", 12 TIMER (in) "A capacitor connected from this pin to GND sets the LTC4230’s system timing. The LTC4230’s initial and second start-up timing cycles and its discharge mode delay time are controlled by this capacitor.", 13 ~{FAULT} (io) "F\A\U\L\T\ is a dual function (an input and an output) internal to the LTC4230. Connected to this pin are an analog comparator (COMP6) and an open-drain N-channel FET.", 14 GND (power) "Device Ground Connection. Connect this pin to the system’s analog ground plane.", 15 ON (in) "An active high signal used to enable or disable LTC4230 operation. As shown in the LTC4230 Block  Diagram, COMP1’s threshold is set at 1.234V and its hysteresis is set at 80mV.", 16 VCC2 (power) "Positive Supply Input for Channel 2. VCC2 operates from 2.375V to 16.5V and its supply current, ICC2, is typically 75mA.", 17 SENSE 2 (in) "Circuit Breaker Sense Pin for Channel 2. With a sense resistor placed in the power path between VCC2 and SENSE 2,", 18 GATE 2 (out) "The output signal at this pin is the high side gate drive for Channel 2’s external N-channel FET pass transistor.", 19 ~{RESET 2} (oc) "An open-drain N-channel device whose source connects to GND (Pin 14). This pin pulls low if the voltage at FB2 (Pin 20) falls below the FB2 threshold (1.234V).", 20 FB2 (in) "The FB2 (Feedback) pin is an input to the FBCOMP2 comparator which monitors the VCC2 output supply voltage through an external resistor divider."

## LTC4230IGN#TR
designator U?
Triple Hot Swap Controller with Multifunction Current Control, (1) 2.7 to 16.5 V, (2) 2.375 to 16.5 V, (3) 1.7 to 15.5 V Vin, 20-pin SOP (GN-20), -40 to 85 degC, Tape and Reel; Manufacturer: Linear Technology; PartNumber: LTC4230IGN#TR; Active Limiting: no; Circuit Breaker Accuracy(%): 20; Circuit Breaker Threshold: 50 mV; Circuit Breakers(#): 3; Extended Temp: C, I; Fast Comparator: yes; In-Rush Current: Active; PackageVersion: Rev. B, 03/2012; PackageReference: GN-20; PackageDescription: 20-Pin Plastic SSOP, Body 8.649 x 3.899 mm, Pitch 0.635 mm; Supplier 1: Digi-Key; Supplier Part Number 1: LTC4230IGNTR-ND; Fault: yes; Foldback: no; Packing: Tape and Reel; Power Good: no; Reset: yes; RoHS: FALSE; Vin Range: (1) 2.7 to 16.5 V, (2) 2.375 to 16.5 V, (3) 1.7 to 15.5 V; Mounting Technology: Surface Mount; ComponentLink1Description: Manufacturer URL; ComponentLink1URL: http://www.linear.com/; ComponentLink2Description: Datasheet; ComponentLink2URL: http://cds.linear.com/docs/en/datasheet/4230f.pdf; ComponentLink3Description: Package Specification; ComponentLink3URL: http://cds.linear.com/docs/en/packaging/05081641_B_GN20.pdf
footprint LT-GN-20_N (SOP, 20-Leads, Body 8.7x4mm, Pitch 0.635mm, IPC Medium Density)
footprint LT-GN-20_L (SOP, 20-Leads, Body 8.7x4mm, Pitch 0.635mm, IPC High Density)
footprint LT-GN-20_M (SOP, 20-Leads, Body 8.7x4mm, Pitch 0.635mm, IPC Low Density)
pins: 1 FB3 (in) "The FB3 (Feedback) pin is an input to the FBCOMP3 comparator which monitors the VCC3 output supply voltage through an external resistor divider.", 2 ~{RESET 3} (oc) "An open-drain N-channel device whose source connects to GND (Pin 14). This pin pulls low if the voltage at FB3 (Pin 1) falls below the FB3 threshold (1.234V).", 3 GATE 3 (out) "The output signal at this pin is the high side gate drive for Channel 3’s external N-channel MOSFET pass transistor.", 4 SENSE 3 (in) "Circuit Breaker Sense Pin for Channel 3. With a sense resistor placed in the power path between VCC3 and SENSE 3,", 5 VCC3 (power) "Positive Supply Input for Channel 3. VCC3 operates from 1.7V to 15.5V (VCC3 £ VCC1 - 1V) and its supply current, ICC3, is typically 65mA. The master UVLO circuit disables all three GATEn outputs of the LTC4230 until the(See Datasheet)", 6 VCC1 (power) "This is the positive supply input to the LTC4230, the power supply input for Channel 1, and the power supply input for all three internal charge pumps.", 7 SENSE 1 (in) "Circuit Breaker Sense Pin for Channel 1. With a sense resistor placed in the power path between VCC1 and SENSE 1, Channel 1’s electronic circuit breaker trips if the voltage across the sense resistor (VCC1 - VSENSE1(See Datasheet)", 8 GATE 1 (out) "The output signal at this pin is the high side gate drive for Channel 1’s external N-channel FET pass transistor.", 9 ~{RESET 1} (hiz) "An open-drain N-channel device whose source connects to GND (Pin 14).", 10 FB1 (in) "The FB1 (Feedback) pin is an input to the FBCOMP1 comparator which monitors the VCC1 output supply voltage through an external resistor divider.", 11 FILTER (in) "Overcurrent Fault Timing Pin and Overvoltage Fault Set Pin. With a capacitor connected from this pin to ground,", 12 TIMER (in) "A capacitor connected from this pin to GND sets the LTC4230’s system timing. The LTC4230’s initial and second start-up timing cycles and its discharge mode delay time are controlled by this capacitor.", 13 ~{FAULT} (io) "F\A\U\L\T\ is a dual function (an input and an output) internal to the LTC4230. Connected to this pin are an analog comparator (COMP6) and an open-drain N-channel FET.", 14 GND (power) "Device Ground Connection. Connect this pin to the system’s analog ground plane.", 15 ON (in) "An active high signal used to enable or disable LTC4230 operation. As shown in the LTC4230 Block  Diagram, COMP1’s threshold is set at 1.234V and its hysteresis is set at 80mV.", 16 VCC2 (power) "Positive Supply Input for Channel 2. VCC2 operates from 2.375V to 16.5V and its supply current, ICC2, is typically 75mA.", 17 SENSE 2 (in) "Circuit Breaker Sense Pin for Channel 2. With a sense resistor placed in the power path between VCC2 and SENSE 2,", 18 GATE 2 (out) "The output signal at this pin is the high side gate drive for Channel 2’s external N-channel FET pass transistor.", 19 ~{RESET 2} (oc) "An open-drain N-channel device whose source connects to GND (Pin 14). This pin pulls low if the voltage at FB2 (Pin 20) falls below the FB2 threshold (1.234V).", 20 FB2 (in) "The FB2 (Feedback) pin is an input to the FBCOMP2 comparator which monitors the VCC2 output supply voltage through an external resistor divider."